# Altium footprint library Diodes.PcbLib: 5 footprints
Each footprint in its own frame and in the unit in brackets; x right, y up, seen from the top. Pads: shape width x height; smd on the part's side, far side on the other; paste and mask are expansions set on the pad; w line width, h text height; cw(c..) or ccw(c..) is an arc to the next point about the centre after c.
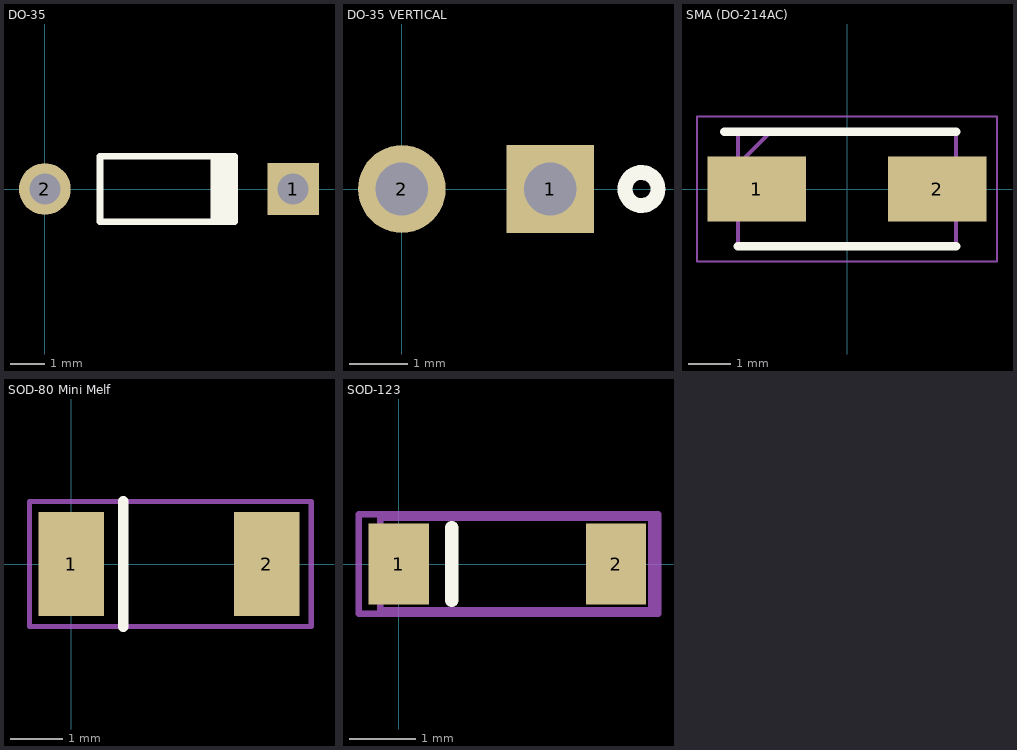
[diagram p0: the footprints below, top view; thin cyan lines are the x and y axes]

## DO-35 [mm] "Diode, Axial; Body 3.8 x 1.9 mm (LxDia. max), Lead Dia. 0.53 mm (max)"
height 1.9
pads (2):
  rect 1.5x1.5 hole 0.9: 1(7.2,0)
  round 1.5 hole 0.9: 2(0,0)
Top Overlay:
  rectangle: 4.8,-0.95 5.6,0.95
  lines w0.2: 5.5,-0.95 1.6,-0.95 1.6,0.95 5.5,0.95

## DO-35 VERTICAL [mm]
pads (2):
  rect 1.5x1.5 hole 0.9: 1(2.54,0)
  round 1.5 hole 0.9: 2(0,0)
Top Overlay:
  circle w0.254: c4.1,0 r0.283
3D body: height 5.25, standoff 1, extent -0.918,-0.923 0.925,0.923
3D body: height 9.25, standoff 0, extent -0.3,-0.4 3,0.4
3D body: height 1.27, standoff 0, extent 1.4,1 1.4,1

## SMA (DO-214AC) [mm]
pads (2):
  rect 2.35x1.55 smd: 1(-2.15,0) 2(2.15,0)
Top Overlay:
  lines w0.2: -2.925,1.362 2.6,1.362 ; -2.6,-1.362 2.6,-1.362
Mechanical 15:
  lines w0.1: -2.6,0.588 -1.825,1.362 ; -2.6,-1.362 2.6,-1.362 2.6,1.362 -2.6,1.362 -2.6,-1.362
Mechanical 20:
  lines w0.05: -3.575,-1.725 3.575,-1.725 3.575,1.725 -3.575,1.725 -3.575,-1.725
3D body "SMA (DO-214AC).stp": height 2.7, standoff 0, extent -2.65,-1.412 2.55,1.313

## SOD-80 Mini Melf [mm] "Mini Melf"
pads (2):
  rect 1.25x2 smd: 1(0,0) 2(3.75,0)
Top Overlay:
  lines w0.2: 1,-1.2 1,1.2
Mechanical 13:
  lines w0.1: -0.8,-1.2 -0.8,1.2 4.6,1.2 4.6,-1.2 -0.8,-1.2
3D body: height 1.49, standoff 0, extent 0.15,-0.8 3.65,0.697

## SOD-123 [mm] "small outline diode 1,7 ? 1,25 ? 0,95 мм"
pads (2):
  rect 0.91x1.22 smd: 1(0,0)
  rect 0.9x1.22 smd: 2(3.27,0)
Top Overlay:
  lines w0.2: 0.8,-0.55 0.8,0.55
Mechanical 13:
  lines w0.1: -0.275,-0.7 3.8,-0.7 3.8,0.7 -0.275,0.7 -0.275,-0.7
Mechanical 15:
  lines w0.1: 0.8,-0.5 0.8,0.5 ; -0.6,-0.75 3.9,-0.75 3.9,0.75 -0.6,0.75 -0.6,-0.75
3D body: height 1.17, standoff 0, extent 0.65,-0.7 2.75,0.7